# Altium schematic symbol library GRM21BR61E226ME44K.SchLib: 1 symbol
Pins are listed as number, name and electrical type; pins without a type are passive.

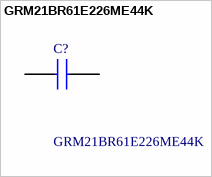
[diagram p0: symbol GRM21BR61E226ME44K]

## GRM21BR61E226ME44K
designator C?
Multilayer Ceramic Capacitors MLCC - SMD/SMT; Manufacturer_Name: Murata Electronics; Geometry.Height: 1.45mm; Manufacturer_Part_Number: GRM21BR61E226ME44K; Mouser Part Number: 81-GRM21BR61E226ME4K; Mouser Price/Stock: https://www.mouser.co.uk/ProductDetail/Murata-Electronics/GRM21BR61E226ME44K?qs=hNud%2FORuBR25jDsUehWlrQ%3D%3D; Arrow Part Number: GRM21BR61E226ME44K; Arrow Price/Stock: https://www.arrow.com/en/products/grm21br61e226me44k/murata-manufacturing?region=nac; Datasheet Link: http://www.murata.com/~/media/webrenewal/support/library/catalog/products/capacitor/mlcc/c02e.pdf
footprint CAPC2012X145N
pins: 1, 2